# Altium footprint library 二值化摄像头封装.PcbLib: 2 footprints
Each footprint in its own frame and in the unit in brackets; x right, y up, seen from the top. Pads: shape width x height; smd on the part's side, far side on the other; paste and mask are expansions set on the pad; w line width, h text height; cw(c..) or ccw(c..) is an arc to the next point about the centre after c.
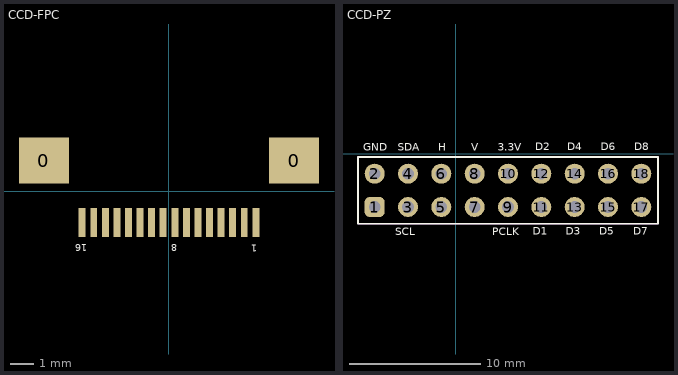
[diagram p0: the footprints below, top view; thin cyan lines are the x and y axes]

## CCD-FPC [mm] "0.5间距 抽屉式 16P"
pads (18):
  rect 2.159x2 smd: 0(-5.4,1.338) 0(5.4,1.338)
  rect 0.3x1.25 smd mask+0.05: 1(3.75,-1.338) 2(3.25,-1.338) 3(2.75,-1.338) 4(2.25,-1.338) 5(1.75,-1.338) 6(1.25,-1.338) 7(0.75,-1.338) 8(0.25,-1.338) 9(-0.25,-1.338) 10(-0.75,-1.338) 11(-1.25,-1.338) 12(-1.75,-1.338) 13(-2.25,-1.338) 14(-2.75,-1.338) 15(-3.25,-1.338) 16(-3.75,-1.338)
Top Overlay:
  text "16" at -3.521,-2.176 h0.51
  text "8" at 0.365,-2.176 h0.51
  text "1" at 3.819,-2.201 h0.51

## CCD-PZ [mil] "2.54间距 18P"
pads (18):
  rrect50% 60x60 hole 35: 1(-243,-160)
  round 60 hole 35: 2(-243,-60) 3(-143,-160) 4(-143,-60) 5(-43,-160) 6(-43,-60) 7(57,-160) 8(57,-60) 9(157,-160) 10(157,-60) 11(257,-160) 12(257,-60) 13(357,-160) 14(357,-60) 15(457,-160) 16(457,-60) 17(557,-160) 18(557,-60)
Top Overlay:
  lines w5: -293,-210 -293,-10 607,-10 607,-210 -293,-210
  text "GND" at -278,0 h40
  text "SDA" at -174,0 h40
  text "SCL" at -181,-253 h40
  text "H" at -52,-0.43 h40
  text "V" at 46,-0.43 h40
  text "3.3V" at 126,0 h40
  text "PCLK" at 110,-253 h40
  text "D7" at 533,-252.43 h40
  text "D8" at 535,1 h40
  text "D5" at 431,-252 h40
  text "D6" at 435,1 h40
  text "D3" at 330,-252 h40
  text "D4" at 335,0.57 h40
  text "D1" at 231,-252.43 h40
  text "D2" at 238,0.57 h40
Mechanical 15:
  lines w5: -293,-210 -293,-10 607,-10 607,-210 -293,-210
3D body: height 336.22, standoff -118.11, extent 207.01,-210 607.01,-110
3D body: height 336.22, standoff -118.11, extent 207.01,-110 607.01,-10
3D body: height 336.22, standoff -118.11, extent -292.99,-210 207.01,-110
3D body: height 336.22, standoff -118.11, extent -292.99,-110 207.01,-10